# EAGLE library part LORLIN-1-12 (library switch-lorlin)
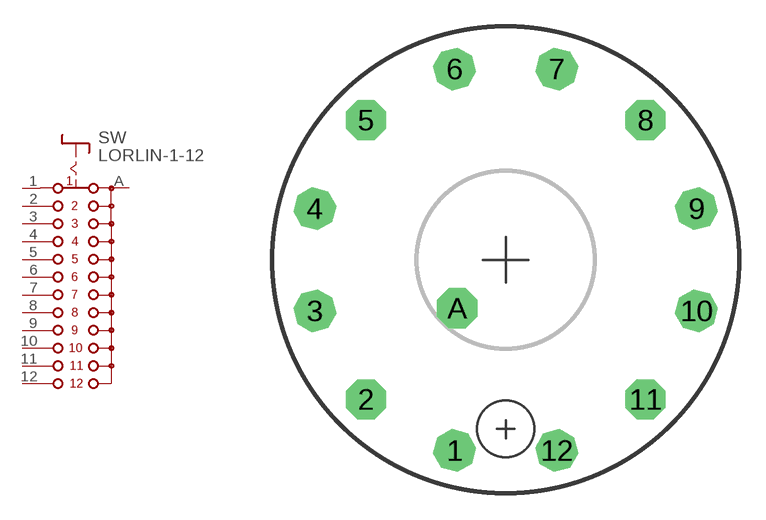
[diagram p1: symbol with the pads of LORLIN-1-12; footprint LORLIN-1-12]

Designator prefix SW

## LORLIN-1-12  [LORLIN-1-12]
1  1  pas
2  2  pas
3  3  pas
4  4  pas
5  5  pas
6  6  pas
7  7  pas
8  8  pas
9  9  pas
10  10  pas
11  11  pas
12  12  pas
A  C  pas

## Footprint LORLIN-1-12 (pad centres in mm)
drill 1.5 octagon: 1 -2.873,-10.722; 2 -7.849,-7.849; 3 -10.722,-2.873; 4 -10.722,2.873; 5 -7.849,7.849; 6 -2.873,10.722; 7 2.873,10.722; 8 7.849,7.849; 9 10.722,2.873; 10 10.722,-2.873; 11 7.849,-7.849; 12 2.873,-10.722; A -2.722,-2.722